# EAGLE library part DS3231SN (library imported-parts)
Extremely Accurate I2C-Integrated RTC/TCXO/Crystal
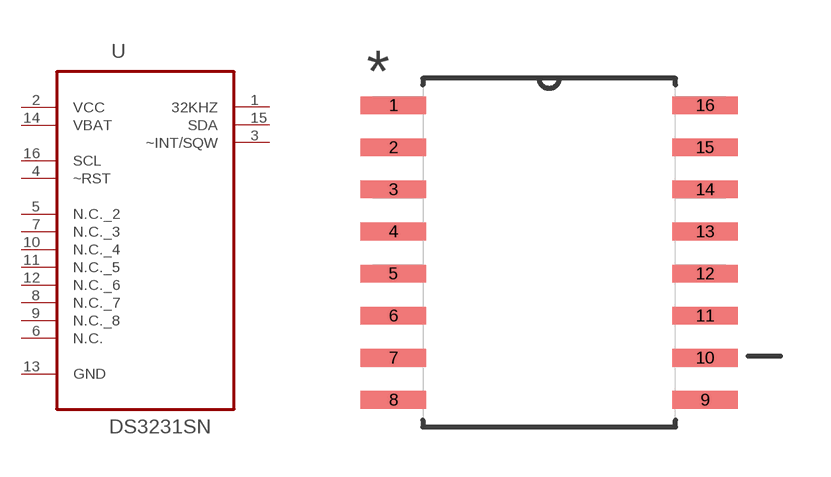
[diagram p13: symbol with the pads of SOIC127P1032X265-16N; footprint SOIC127P1032X265-16N]

Designator prefix U

## DS3231SN (MPN: DS3231SN#; OC_FARNELL: 1593292; OC_NEWARK: 68K3406; PACKAGE: SOIC-16; SUPPLIER: Maxim)  [SOIC127P1032X265-16N]
1  32KHZ  out
2  VCC  pwr
3  ~INT/SQW  out
4  ~RST
5  N.C._2  nc
6  N.C.  nc
7  N.C._3  nc
8  N.C._7  nc
9  N.C._8  nc
10  N.C._4  nc
11  N.C._5  nc
12  N.C._6  nc
13  GND  pas
14  VBAT  pwr
15  SDA
16  SCL  in

## Footprint SOIC127P1032X265-16N (pad centres in mm)
smd 1.981 x 0.533: 1 -4.699,4.445; 2 -4.699,3.175; 3 -4.699,1.905; 4 -4.699,0.635; 5 -4.699,-0.635; 6 -4.699,-1.905; 7 -4.699,-3.175; 8 -4.699,-4.445; 9 4.699,-4.445; 10 4.699,-3.175; 11 4.699,-1.905; 12 4.699,-0.635; 13 4.699,0.635; 14 4.699,1.905; 15 4.699,3.175; 16 4.699,4.445